# Altium schematic symbol library WiFiMod.SchLib: 4 symbols
Pins are listed as number, name and electrical type; pins without a type are passive.

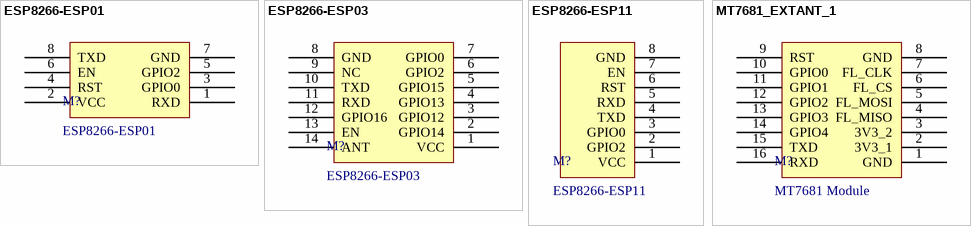
[diagram p0: symbols ESP8266-ESP01 to MT7681_EXTANT_1]

## ESP8266-ESP01
designator M?
footprint ESP8266-ESP01
pins: 1 RXD, 2 VCC, 3 GPIO0, 4 RST, 5 GPIO2, 6 EN, 7 GND, 8 TXD

## ESP8266-ESP03
designator M?
footprint ESP8266-ESP03
pins: 1 VCC, 2 GPIO14, 3 GPIO12, 4 GPIO13, 5 GPIO15, 6 GPIO2, 7 GPIO0, 8 GND, 9 NC, 10 TXD, 11 RXD, 12 GPIO16, 13 EN, 14 ANT

## ESP8266-ESP11
designator M?
footprint ESP8266-ESP11
pins: 1 VCC (power), 2 GPIO2, 3 GPIO0, 4 TXD, 5 RXD, 6 RST, 7 EN, 8 GND

## MT7681_EXTANT_1
designator M?, comment MT7681 Module
footprint MT7681-ExtAnt-1
pins: 1 GND, 2 3V3_1, 3 3V3_2, 4 FL_MISO, 5 FL_MOSI, 6 FL_CS, 7 FL_CLK, 8 GND, 9 RST, 10 GPIO0, 11 GPIO1, 12 GPIO2, 13 GPIO3, 14 GPIO4, 15 TXD, 16 RXD